# Altium schematic symbol library MC34063.SchLib: 1 symbol
Pins are listed as number, name and electrical type; pins without a type are passive.

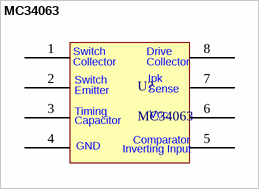
[diagram p0: symbol MC34063]

## MC34063
designator U?
pins: 1 (power), 2 (power), 3 (power), 4 (power), 5 (power), 6 (power), 7 (power), 8 (power)
text: Switch; Drive; Collector; Ipk; Emitter; Sense; Timing; Capacitor; Vcc; Comparator; GND; Inverting Input